# EAGLE library part MB82B81PSK (library micro-fujitsu)
MICROCONTROLLER/MEMORY DEVICE
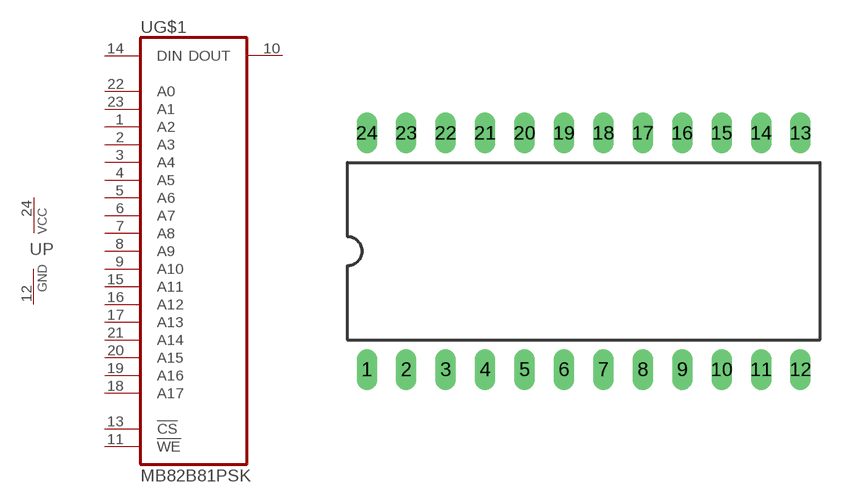
[diagram p42: symbol with the pads of DIL24-6; footprint DIL24-6]

Designator prefix U; gates G$1=MB81C81 P=VCC-GND

## MB82B81PSK  [DIL24-6]
1  G$1:A2  in
2  G$1:A3  in
3  G$1:A4  in
4  G$1:A5  in
5  G$1:A6  in
6  G$1:A7  in
7  G$1:A8  in
8  G$1:A9  in
9  G$1:A10  in
10  G$1:DOUT  out
11  G$1:!WE!  in
12  P:GND  pwr
13  G$1:!CS!  in
14  G$1:DIN  in
15  G$1:A11  in
16  G$1:A12  in
17  G$1:A13  in
18  G$1:A17  in
19  G$1:A16  in
20  G$1:A15  in
21  G$1:A14  in
22  G$1:A0  in
23  G$1:A1  in
24  P:VCC  pwr

## Footprint DIL24-6 (pad centres in mm)
Dual In Line Package 0.6 inch
drill 0.813 long: 1 -13.97,-7.62; 2 -11.43,-7.62; 3 -8.89,-7.62; 4 -6.35,-7.62; 5 -3.81,-7.62; 6 -1.27,-7.62; 7 1.27,-7.62; 8 3.81,-7.62; 9 6.35,-7.62; 10 8.89,-7.62; 11 11.43,-7.62; 12 13.97,-7.62; 13 13.97,7.62; 14 11.43,7.62; 15 8.89,7.62; 16 6.35,7.62; 17 3.81,7.62; 18 1.27,7.62; 19 -1.27,7.62; 20 -3.81,7.62; 21 -6.35,7.62; 22 -8.89,7.62; 23 -11.43,7.62; 24 -13.97,7.62